# EAGLE library part MAX3378E (library maxim-levelshifters)
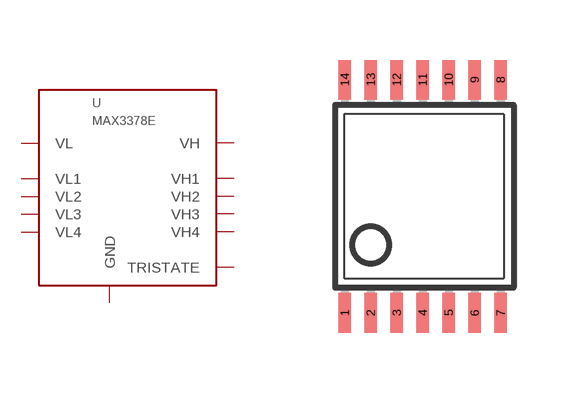
[diagram p0: symbol with the pads of TSSOP14; footprint TSSOP14]

Designator prefix -

## MAX3378ETSSOP14  [TSSOP14]
1  VL
2  VL1
3  VL2
4  VL3
5  VL4
7  GND  pwr
8  TRISTATE
10  VH4
11  VH3
12  VH2
13  VH1
14  VH

## Footprint TSSOP14 (pad centres in mm)
smd 0.305 x 0.991: 1 -1.925,-2.918; 2 -1.275,-2.918; 3 -0.625,-2.918; 4 0.025,-2.918; 5 0.675,-2.918; 6 1.325,-2.918; 7 1.975,-2.918; 8 1.975,2.918; 9 1.325,2.918; 10 0.675,2.918; 11 0.025,2.918; 12 -0.625,2.918; 13 -1.275,2.918; 14 -1.925,2.918